# EAGLE library part 796689-8 (library con-tyco)
TERMINAL BLOCK 5 mm, Euro Style
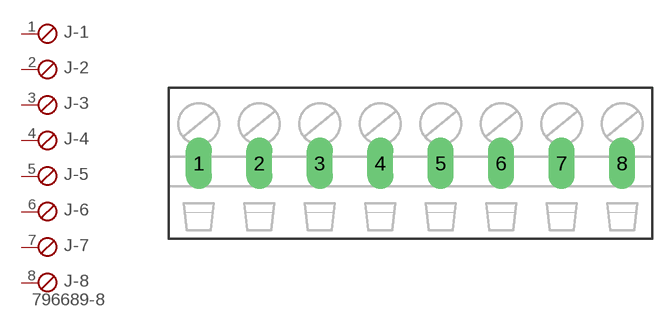
[diagram p12: symbol with the pads of 796689-8; footprint 796689-8]

Designator prefix J; gates -1=SKB -2=SKB -3=SKB -4=SKB -5=SKB -6=SKB -7=SKB -8=SKBV

## 796689-8  [796689-8]
1  -1:1  pas
2  -2:1  pas
3  -3:1  pas
4  -4:1  pas
5  -5:1  pas
6  -6:1  pas
7  -7:1  pas
8  -8:1  pas

## Footprint 796689-8 (pad centres in mm)
TERMINAL BLOCK 5 mm pitch
drill 1.422 long: 1 -17.5,0; 2 -12.5,0; 3 -7.5,0; 4 -2.5,0; 5 2.5,0; 6 7.5,0; 7 12.5,0; 8 17.5,0